# Altium schematic symbol library Integrated Preamp Sch Lib.SchLib: 3 symbols
Pins are listed as number, name and electrical type; pins without a type are passive.

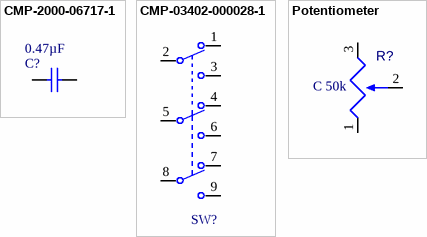
[diagram p0: symbols CMP-2000-06717-1 to Potentiometer]

## CMP-2000-06717-1
designator C?  Capacitance: 0.47µF  (hidden comment: *)
Metallized Polyester (PET) Capacitor, 0.47 uF, +/- 10%, 100 V DC, 63 V AC, -55 to 100 degC, 2-Pin THD, RoHS, Bulk; Manufacturer: Wima; SVHC: NoSVHC(15-Jun-2015); Capacitor Dielectric Type: PET(Polyester); Voltage Rating: 100V; Capacitor Terminals: RadialLeaded; Product Range: MKS2Series; Package Description: 2-Pin Through Hole Device, Body 7.2 x 4.5 mm, Pitch 5 mm; Mounting Technology: ThroughHole; Package Reference: MKS2D034701E00; Packaging: Each; Automotive Qualification Standard: -; Datasheet Version: 04/2016; Manufacturer URL: http://www.wima.com/; Operating Temperature Max: 100°C; Datasheet URL: http://www.wima.com/EN/WIMA_MKS_2.pdf; Operating Temperature Min: -55°C; Capacitance Tolerance: ±10%; Lead Spacing: 5mm; Capacitor Case Style: -
footprint WIMA-MKS2D024701A00KSSD (THD, 2-Leads, Body 7.2x2.5mm, Pitch 5mm)
pins: 1, 2

## CMP-03402-000028-1
designator SW?, comment MPG306F  (value not drawn)
SWITCH PUSHBUTTON 3PDT 6A 125V; Voltage Rating (AC): 250V; Contact Resistance: 10mR; Current Rating: 4A; Switch Function: On-Mom; Illumination Type: Illuminated; Actuator Length: 0.315inch; Actuator Type: Round, Button; Actuator Material: Resin; Voltage Rating (DC): 28V; Electrical Life: 50000Cycles; Max Voltage Rating (AC): 250V; Lead Free: Contains Lead; Series: MPG; Min Operating Temperature: -20°C; Orientation: Straight; Length: 17.8mm; RoHS Compliant: Yes; Type: Switch; REACH SVHC: No SVHC; Throw Configuration: 3PDT; Mount: Panel; Contact Current Rating: 6A; Termination: Lug; Contact Plating: Gold; Max Operating Temperature: 80°C; ELV: Compliant; Packaging: Bulk; Contact Material: Copper; Housing Material: Thermoset
footprint 3PDT Stomp
pins: 1, 2, 3, 4, 5, 6, 7, 8, 9

## Potentiometer
designator R?  value C 50k  (hidden comment: *)
footprint PCB Mount Potentiometer
pins: 1, 2, 3